# Altium schematic symbol library MCU^MPU.SchLib: 7 symbols
Pins are listed as number, name and electrical type; pins without a type are passive.

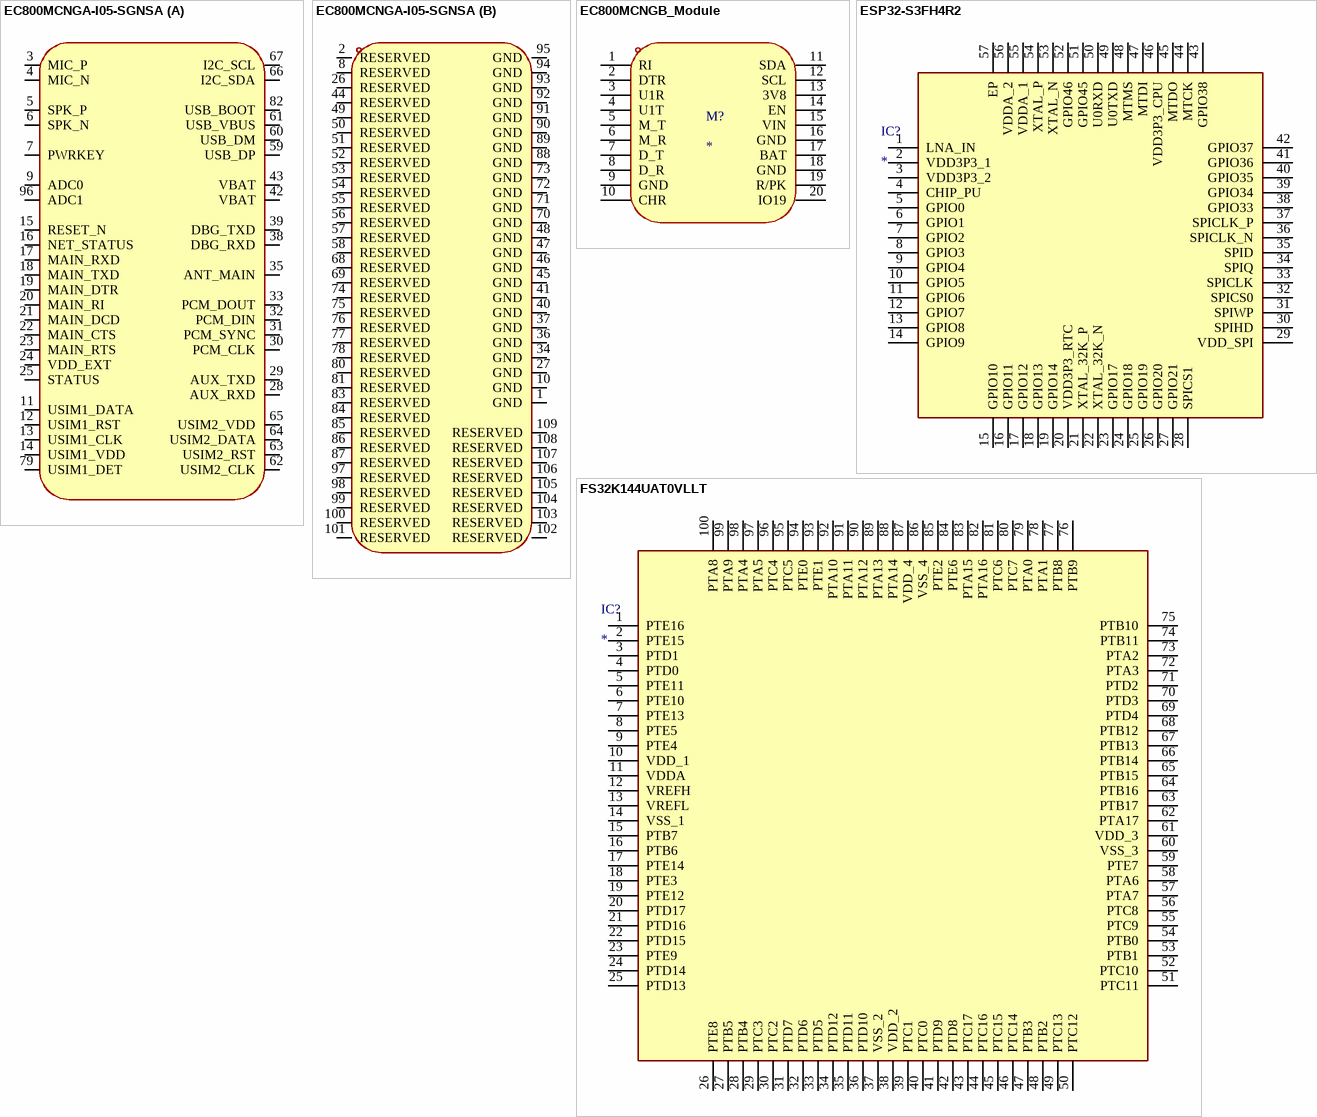
[diagram p0: symbols EC800MCNGA-I05-SGNSA to FS32K144UAT0VLLT]

## EC800MCNGA-I05-SGNSA
designator U??  (value not drawn)
Manufacturer: Quectel(移远); Add into BOM: yes; Symbol: EC800MCNGA-I05-SGNSA; Device: EC800MCNGA-I05-SGNSA; LCSC Part Name: LTE Standard 模块 停产; Supplier Part: C5200736; Manufacturer Part: EC800MCNGA-I05-SGNSA; Supplier Footprint: SMD,15.8x17.7mm; JLCPCB Part Class: Extended Part; Datasheet: https://atta.szlcsc.com/upload/public/pdf/source/20221128/3247853C8E24B9EB0EE07D4BC508718A.pdf; Supplier: LCSC; Convert to PCB: yes
footprint LCC-109_L17.7-W15.8-P1.10_EC800M-CN (Footprint not found)
3D model LCC-109_L17.7-W15.8-P1.10_EC800M-CN
part A pins: 3 MIC_P, 4 MIC_N, 5 SPK_P, 6 SPK_N, 7 PWRKEY, 9 ADC0, 11 USIM1_DATA, 12 USIM1_RST, 13 USIM1_CLK, 14 USIM1_VDD, 15 RESET_N, 16 NET_STATUS, 17 MAIN_RXD, 18 MAIN_TXD, 19 MAIN_DTR, 20 MAIN_RI, 21 MAIN_DCD, 22 MAIN_CTS, 23 MAIN_RTS, 24 VDD_EXT, 25 STATUS, 28 AUX_RXD, 29 AUX_TXD, 30 PCM_CLK, 31 PCM_SYNC, 32 PCM_DIN, 33 PCM_DOUT, 35 ANT_MAIN, 38 DBG_RXD, 39 DBG_TXD, 42 VBAT, 43 VBAT, 59 USB_DP, 60 USB_DM, 61 USB_VBUS, 62 USIM2_CLK, 63 USIM2_RST, 64 USIM2_DATA, 65 USIM2_VDD, 66 I2C_SDA, 67 I2C_SCL, 79 USIM1_DET, 82 USB_BOOT, 96 ADC1
part B pins: 1 GND, 2 RESERVED, 8 RESERVED, 10 GND, 26 RESERVED, 27 GND, 34 GND, 36 GND, 37 GND, 40 GND, 41 GND, 44 RESERVED, 45 GND, 46 GND, 47 GND, 48 GND, 49 RESERVED, 50 RESERVED, 51 RESERVED, 52 RESERVED, 53 RESERVED, 54 RESERVED, 55 RESERVED, 56 RESERVED, 57 RESERVED, 58 RESERVED, 68 RESERVED, 69 RESERVED, 70 GND, 71 GND, 72 GND, 73 GND, 74 RESERVED, 75 RESERVED, 76 RESERVED, 77 RESERVED, 78 RESERVED, 80 RESERVED, 81 RESERVED, 83 RESERVED, 84 RESERVED, 85 RESERVED, 86 RESERVED, 87 RESERVED, 88 GND, 89 GND, 90 GND, 91 GND, 92 GND, 93 GND, 94 GND, 95 GND, 97 RESERVED, 98 RESERVED, 99 RESERVED, 100 RESERVED, 101 RESERVED, 102 RESERVED, 103 RESERVED, 104 RESERVED, 105 RESERVED, 106 RESERVED, 107 RESERVED, 108 RESERVED, 109 RESERVED

## EC800MCNGB_Module
designator M?
footprint EC800MCNGB_Module
pins: 1 RI, 2 DTR, 3 U1R, 4 U1T, 5 M_T, 6 M_R, 7 D_T, 8 D_R, 9 GND, 10 CHR, 11 SDA, 12 SCL, 13 3V8, 14 EN, 15 VIN, 16 GND, 17 BAT, 18 GND, 19 R/PK, 20 IO19

## ESP32-S3FH4R2
designator IC?
Integrated Circuit; Manufacturer_Name: Espressif Systems; Manufacturer_Part_Number: ESP32-S3FH4R2; Datasheet Link: https://eu.mouser.com/datasheet/2/891/esp32_s3_datasheet_en-2946743.pdf; Height: 0.9mm; Mouser Part Number: 356-ESP32-S3FH4R2; Mouser Price/Stock: https://www.mouser.co.uk/ProductDetail/Espressif-Systems/ESP32-S3FH4R2?qs=tlsG%2FOw5FFjPrwkmZSBQNA%3D%3D
footprint QFN40P700X700X90-57N-D
pins: 1 LNA_IN, 2 VDD3P3_1, 3 VDD3P3_2, 4 CHIP_PU, 5 GPIO0, 6 GPIO1, 7 GPIO2, 8 GPIO3, 9 GPIO4, 10 GPIO5, 11 GPIO6, 12 GPIO7, 13 GPIO8, 14 GPIO9, 15 GPIO10, 16 GPIO11, 17 GPIO12, 18 GPIO13, 19 GPIO14, 20 VDD3P3_RTC, 21 XTAL_32K_P, 22 XTAL_32K_N, 23 GPIO17, 24 GPIO18, 25 GPIO19, 26 GPIO20, 27 GPIO21, 28 SPICS1, 29 VDD_SPI, 30 SPIHD, 31 SPIWP, 32 SPICS0, 33 SPICLK, 34 SPIQ, 35 SPID, 36 SPICLK_N, 37 SPICLK_P, 38 GPIO33, 39 GPIO34, 40 GPIO35, 41 GPIO36, 42 GPIO37, 43 GPIO38, 44 MTCK, 45 MTDO, 46 VDD3P3_CPU, 47 MTDI, 48 MTMS, 49 U0TXD, 50 U0RXD, 51 GPIO45, 52 GPIO46, 53 XTAL_N, 54 XTAL_P, 55 VDDA_1, 56 VDDA_2, 57 EP

## FS32K144UAT0VLLT
designator IC?
Integrated Circuit; Manufacturer_Name: NXP; Manufacturer_Part_Number: FS32K144UAT0VLLT; Datasheet Link: https://datasheet.datasheetarchive.com/originals/distributors/DKDS42/DSANUWW0047967.pdf; Height: 1.7mm; Mouser Part Number: 771-FS32K144UAT0VLLT; Mouser Price/Stock: https://www.mouser.co.uk/ProductDetail/NXP-Semiconductors/FS32K144UAT0VLLT?qs=BZBei1rCqCBqCNyfsdzjpg%3D%3D; Arrow Part Number: FS32K144UAT0VLLT; Arrow Price/Stock: https://www.arrow.com/en/products/fs32k144uat0vllt/nxp-semiconductors?region=nac
footprint QFP50P1600X1600X170-100N
pins: 1 PTE16, 2 PTE15, 3 PTD1, 4 PTD0, 5 PTE11, 6 PTE10, 7 PTE13, 8 PTE5, 9 PTE4, 10 VDD_1, 11 VDDA, 12 VREFH, 13 VREFL, 14 VSS_1, 15 PTB7, 16 PTB6, 17 PTE14, 18 PTE3, 19 PTE12, 20 PTD17, 21 PTD16, 22 PTD15, 23 PTE9, 24 PTD14, 25 PTD13, 26 PTE8, 27 PTB5, 28 PTB4, 29 PTC3, 30 PTC2, 31 PTD7, 32 PTD6, 33 PTD5, 34 PTD12, 35 PTD11, 36 PTD10, 37 VSS_2, 38 VDD_2, 39 PTC1, 40 PTC0, 41 PTD9, 42 PTD8, 43 PTC17, 44 PTC16, 45 PTC15, 46 PTC14, 47 PTB3, 48 PTB2, 49 PTC13, 50 PTC12, 51 PTC11, 52 PTC10, 53 PTB1, 54 PTB0, 55 PTC9, 56 PTC8, 57 PTA7, 58 PTA6, 59 PTE7, 60 VSS_3, 61 VDD_3, 62 PTA17, 63 PTB17, 64 PTB16, 65 PTB15, 66 PTB14, 67 PTB13, 68 PTB12, 69 PTD4, 70 PTD3, 71 PTD2, 72 PTA3, 73 PTA2, 74 PTB11, 75 PTB10, 76 PTB9, 77 PTB8, 78 PTA1, 79 PTA0, 80 PTC7, 81 PTC6, 82 PTA16, 83 PTA15, 84 PTE6, 85 PTE2, 86 VSS_4, 87 VDD_4, 88 PTA14, 89 PTA13, 90 PTA12, 91 PTA11, 92 PTA10, 93 PTE1, 94 PTE0, 95 PTC5, 96 PTC4, 97 PTA5, 98 PTA4, 99 PTA9, 100 PTA8

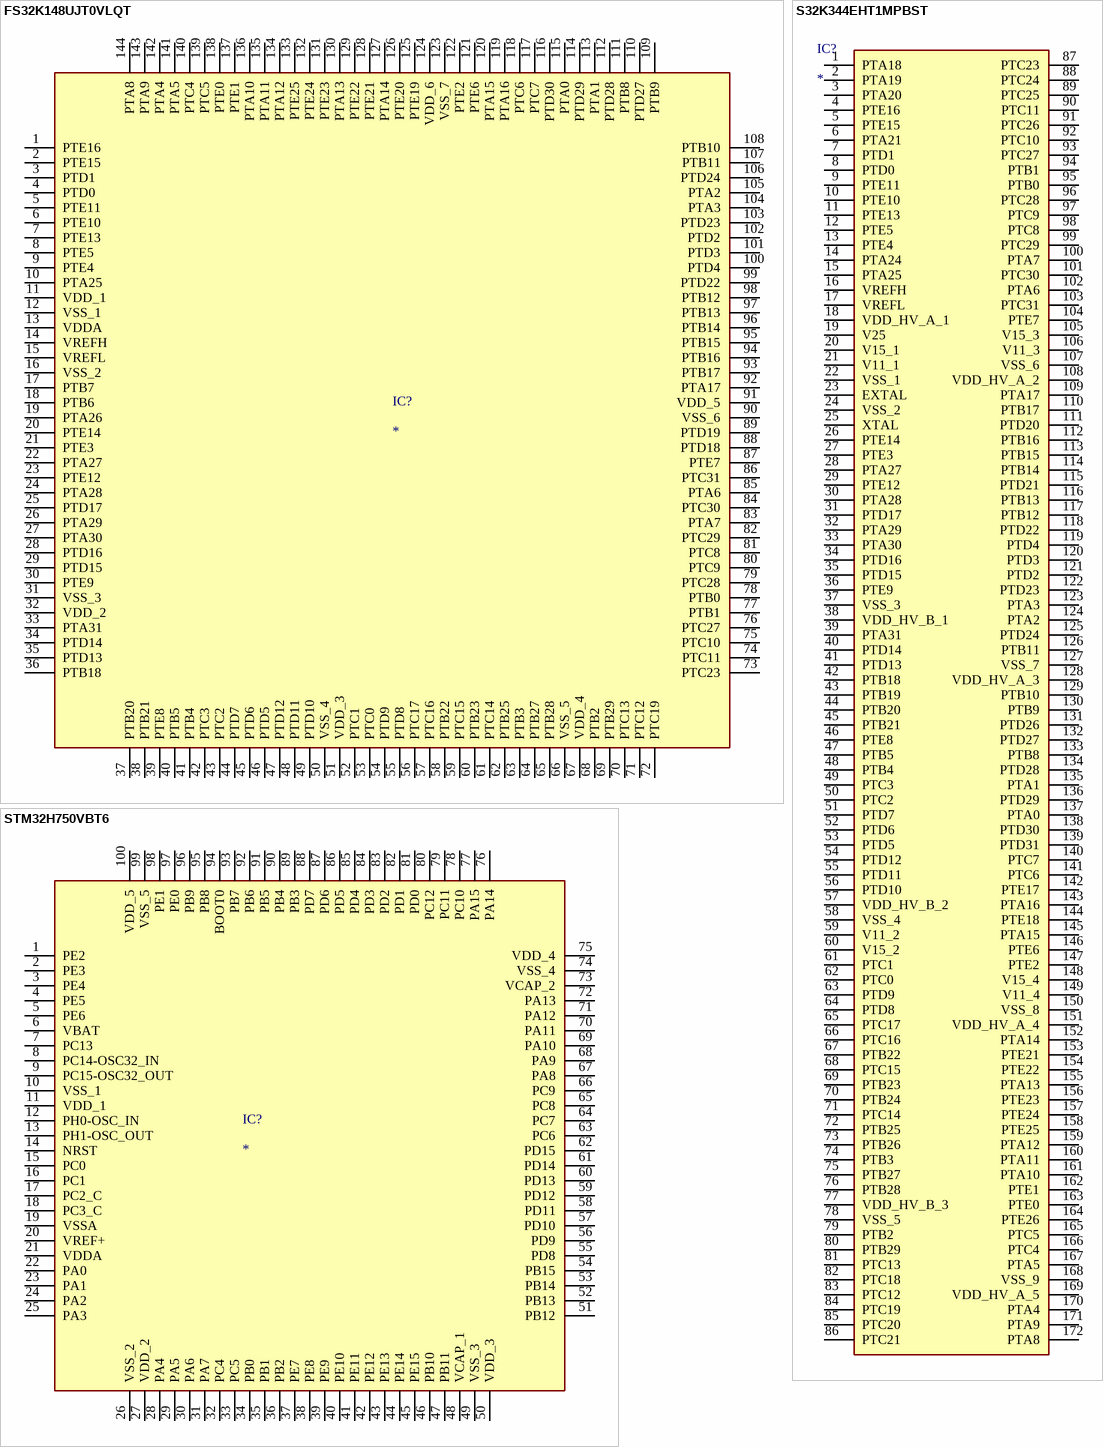
[diagram p1: symbols FS32K148UJT0VLQT to STM32H750VBT6]

## FS32K148UJT0VLQT
designator IC?
Integrated Circuit; Manufacturer_Name: NXP; Manufacturer_Part_Number: FS32K148HET0MLQT; Datasheet Link: https://www.nxp.com/docs/en/package-information/98ASS23177W.pdf; Height: 1.6mm; Mouser Part Number: 771-FS32K148HET0MLQT; Mouser Price/Stock: https://www.mouser.co.uk/ProductDetail/NXP-Semiconductors/FS32K148HET0MLQT?qs=qpJ%252B%252B%252Bdg6p2yNmL6%2Fxm8MA%3D%3D
footprint QFP50P2200X2200X160-144N
pins: 1 PTE16, 2 PTE15, 3 PTD1, 4 PTD0, 5 PTE11, 6 PTE10, 7 PTE13, 8 PTE5, 9 PTE4, 10 PTA25, 11 VDD_1, 12 VSS_1, 13 VDDA, 14 VREFH, 15 VREFL, 16 VSS_2, 17 PTB7, 18 PTB6, 19 PTA26, 20 PTE14, 21 PTE3, 22 PTA27, 23 PTE12, 24 PTA28, 25 PTD17, 26 PTA29, 27 PTA30, 28 PTD16, 29 PTD15, 30 PTE9, 31 VSS_3, 32 VDD_2, 33 PTA31, 34 PTD14, 35 PTD13, 36 PTB18, 37 PTB20, 38 PTB21, 39 PTE8, 40 PTB5, 41 PTB4, 42 PTC3, 43 PTC2, 44 PTD7, 45 PTD6, 46 PTD5, 47 PTD12, 48 PTD11, 49 PTD10, 50 VSS_4, 51 VDD_3, 52 PTC1, 53 PTC0, 54 PTD9, 55 PTD8, 56 PTC17, 57 PTC16, 58 PTB22, 59 PTC15, 60 PTB23, 61 PTC14, 62 PTB25, 63 PTB3, 64 PTB27, 65 PTB28, 66 VSS_5, 67 VDD_4, 68 PTB2, 69 PTB29, 70 PTC13, 71 PTC12, 72 PTC19, 73 PTC23, 74 PTC11, 75 PTC10, 76 PTC27, 77 PTB1, 78 PTB0, 79 PTC28, 80 PTC9, 81 PTC8, 82 PTC29, 83 PTA7, 84 PTC30, 85 PTA6, 86 PTC31, 87 PTE7, 88 PTD18, 89 PTD19, 90 VSS_6, 91 VDD_5, 92 PTA17, 93 PTB17, 94 PTB16, 95 PTB15, 96 PTB14, 97 PTB13, 98 PTB12, 99 PTD22, 100 PTD4, 101 PTD3, 102 PTD2, 103 PTD23, 104 PTA3, 105 PTA2, 106 PTD24, 107 PTB11, 108 PTB10, 109 PTB9, 110 PTD27, 111 PTB8, 112 PTD28, 113 PTA1, 114 PTD29, 115 PTA0, 116 PTD30, 117 PTC7, 118 PTC6, 119 PTA16, 120 PTA15, 121 PTE6, 122 PTE2, 123 VSS_7, 124 VDD_6, 125 PTE19, 126 PTE20, 127 PTA14, 128 PTE21, 129 PTE22, 130 PTA13, 131 PTE23, 132 PTE24, 133 PTE25, 134 PTA12, 135 PTA11, 136 PTA10, 137 PTE1, 138 PTE0, 139 PTC5, 140 PTC4, 141 PTA5, 142 PTA4, 143 PTA9, 144 PTA8

## S32K344EHT1MPBST
designator IC?
Integrated Circuit; Manufacturer_Name: NXP; Manufacturer_Part_Number: S32K344EHT1MPBST; Datasheet Link: https://www.nxp.com/docs/en/data-sheet/S32K3xx.pdf; Height: 1.75mm; Mouser Part Number: 771-S32K344EHT1MPBST; Mouser Price/Stock: https://www.mouser.co.uk/ProductDetail/NXP-Semiconductors/S32K344EHT1MPBST?qs=Rp5uXu7WBW8J9n%252BPyXjBKQ%3D%3D; Arrow Part Number: S32K344EHT1MPBST; Arrow Price/Stock: https://www.arrow.com/en/products/s32k344eht1mpbst/nxp-semiconductors?region=nac
footprint S32K344EHT1MPBST
pins: 1 PTA18, 2 PTA19, 3 PTA20, 4 PTE16, 5 PTE15, 6 PTA21, 7 PTD1, 8 PTD0, 9 PTE11, 10 PTE10, 11 PTE13, 12 PTE5, 13 PTE4, 14 PTA24, 15 PTA25, 16 VREFH, 17 VREFL, 18 VDD_HV_A_1, 19 V25, 20 V15_1, 21 V11_1, 22 VSS_1, 23 EXTAL, 24 VSS_2, 25 XTAL, 26 PTE14, 27 PTE3, 28 PTA27, 29 PTE12, 30 PTA28, 31 PTD17, 32 PTA29, 33 PTA30, 34 PTD16, 35 PTD15, 36 PTE9, 37 VSS_3, 38 VDD_HV_B_1, 39 PTA31, 40 PTD14, 41 PTD13, 42 PTB18, 43 PTB19, 44 PTB20, 45 PTB21, 46 PTE8, 47 PTB5, 48 PTB4, 49 PTC3, 50 PTC2, 51 PTD7, 52 PTD6, 53 PTD5, 54 PTD12, 55 PTD11, 56 PTD10, 57 VDD_HV_B_2, 58 VSS_4, 59 V11_2, 60 V15_2, 61 PTC1, 62 PTC0, 63 PTD9, 64 PTD8, 65 PTC17, 66 PTC16, 67 PTB22, 68 PTC15, 69 PTB23, 70 PTB24, 71 PTC14, 72 PTB25, 73 PTB26, 74 PTB3, 75 PTB27, 76 PTB28, 77 VDD_HV_B_3, 78 VSS_5, 79 PTB2, 80 PTB29, 81 PTC13, 82 PTC18, 83 PTC12, 84 PTC19, 85 PTC20, 86 PTC21, 87 PTC23, 88 PTC24, 89 PTC25, 90 PTC11, 91 PTC26, 92 PTC10, 93 PTC27, 94 PTB1, 95 PTB0, 96 PTC28, 97 PTC9, 98 PTC8, 99 PTC29, 100 PTA7, 101 PTC30, 102 PTA6, 103 PTC31, 104 PTE7, 105 V15_3, 106 V11_3, 107 VSS_6, 108 VDD_HV_A_2, 109 PTA17, 110 PTB17, 111 PTD20, 112 PTB16, 113 PTB15, 114 PTB14, 115 PTD21, 116 PTB13, 117 PTB12, 118 PTD22, 119 PTD4, 120 PTD3, 121 PTD2, 122 PTD23, 123 PTA3, 124 PTA2, 125 PTD24, 126 PTB11, 127 VSS_7, 128 VDD_HV_A_3, 129 PTB10, 130 PTB9, 131 PTD26, 132 PTD27, 133 PTB8, 134 PTD28, 135 PTA1, 136 PTD29, 137 PTA0, 138 PTD30, 139 PTD31, 140 PTC7, 141 PTC6, 142 PTE17, 143 PTA16, 144 PTE18, 145 PTA15, 146 PTE6, 147 PTE2, 148 V15_4, 149 V11_4, 150 VSS_8, 151 VDD_HV_A_4, 152 PTA14, 153 PTE21, 154 PTE22, 155 PTA13, 156 PTE23, 157 PTE24, 158 PTE25, 159 PTA12, 160 PTA11, 161 PTA10, 162 PTE1, 163 PTE0, 164 PTE26, 165 PTC5, 166 PTC4, 167 PTA5, 168 VSS_9, 169 VDD_HV_A_5, 170 PTA4, 171 PTA9, 172 PTA8

## STM32H750VBT6
designator IC?
Integrated Circuit; Manufacturer_Name: STMicroelectronics; Manufacturer_Part_Number: STM32H750VBT6; Datasheet Link: https://www.st.com/resource/en/datasheet/stm32h750vb.pdf; Height: 1.6mm; Mouser Part Number: 511-STM32H750VBT6; Mouser Price/Stock: https://www.mouser.co.uk/ProductDetail/STMicroelectronics/STM32H750VBT6?qs=%252BEew9%252B0nqrBAeuu%2FsQQSzQ%3D%3D; Arrow Part Number: STM32H750VBT6; Arrow Price/Stock: https://www.arrow.com/en/products/stm32h750vbt6/stmicroelectronics?utm_currency=USD&region=nac
footprint QFP50P1600X1600X160-100N
pins: 1 PE2, 2 PE3, 3 PE4, 4 PE5, 5 PE6, 6 VBAT, 7 PC13, 8 PC14-OSC32_IN, 9 PC15-OSC32_OUT, 10 VSS_1, 11 VDD_1, 12 PH0-OSC_IN, 13 PH1-OSC_OUT, 14 NRST, 15 PC0, 16 PC1, 17 PC2_C, 18 PC3_C, 19 VSSA, 20 VREF+, 21 VDDA, 22 PA0, 23 PA1, 24 PA2, 25 PA3, 26 VSS_2, 27 VDD_2, 28 PA4, 29 PA5, 30 PA6, 31 PA7, 32 PC4, 33 PC5, 34 PB0, 35 PB1, 36 PB2, 37 PE7, 38 PE8, 39 PE9, 40 PE10, 41 PE11, 42 PE12, 43 PE13, 44 PE14, 45 PE15, 46 PB10, 47 PB11, 48 VCAP_1, 49 VSS_3, 50 VDD_3, 51 PB12, 52 PB13, 53 PB14, 54 PB15, 55 PD8, 56 PD9, 57 PD10, 58 PD11, 59 PD12, 60 PD13, 61 PD14, 62 PD15, 63 PC6, 64 PC7, 65 PC8, 66 PC9, 67 PA8, 68 PA9, 69 PA10, 70 PA11, 71 PA12, 72 PA13, 73 VCAP_2, 74 VSS_4, 75 VDD_4, 76 PA14, 77 PA15, 78 PC10, 79 PC11, 80 PC12, 81 PD0, 82 PD1, 83 PD2, 84 PD3, 85 PD4, 86 PD5, 87 PD6, 88 PD7, 89 PB3, 90 PB4, 91 PB5, 92 PB6, 93 PB7, 94 BOOT0, 95 PB8, 96 PB9, 97 PE0, 98 PE1, 99 VSS_5, 100 VDD_5